# Altium schematic symbol library Schlib.SchLib: 4 symbols
Pins are listed as number, name and electrical type; pins without a type are passive.

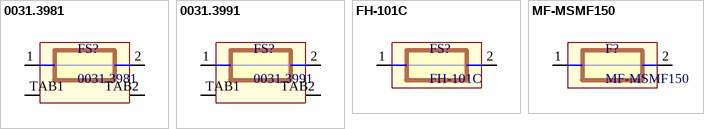
[diagram p0: symbols 0031.3981 to MF-MSMF150]

## 0031.3981
designator FS?
FUSE HLDR CARTRIDGE 250V 10A PCB
footprint 0031.3981 (FUSE HLDR CARTRIDGE 250V 10A PCB)
pins: 1, 2, TAB1, TAB2

## 0031.3991
designator FS?
FUSE HLDR CARTRIDGE 250V 10A PCB WITH FINGERTIP
footprint 0031.3991 (FUSE HLDR CARTRIDGE 250V 10A PCB FINGERTIP)
pins: 1, 2, TAB1, TAB2

## FH-101C
designator FS?
FUSE HLDR CARTRIDGE 250V 10A PCB DRAGON CITY
footprint FH-101C (FUSE HLDR CARTRIDGE 250V 10A PCB DRAGON CITY)
pins: 1, 2

## MF-MSMF150
designator F?
1.5A 1812 SMD FUSE
footprint MF-MSMF-Style1 (MF-MSMF Bourns PTC Resettable Fuse)
pins: 1, 2